# Altium footprint library myLIB.PcbLib: 150 footprints (part 1 of 10)
Each footprint in its own frame and in the unit in brackets; x right, y up, seen from the top. Pads: shape width x height; smd on the part's side, far side on the other; paste and mask are expansions set on the pad; w line width, h text height; cw(c..) or ccw(c..) is an arc to the next point about the centre after c.
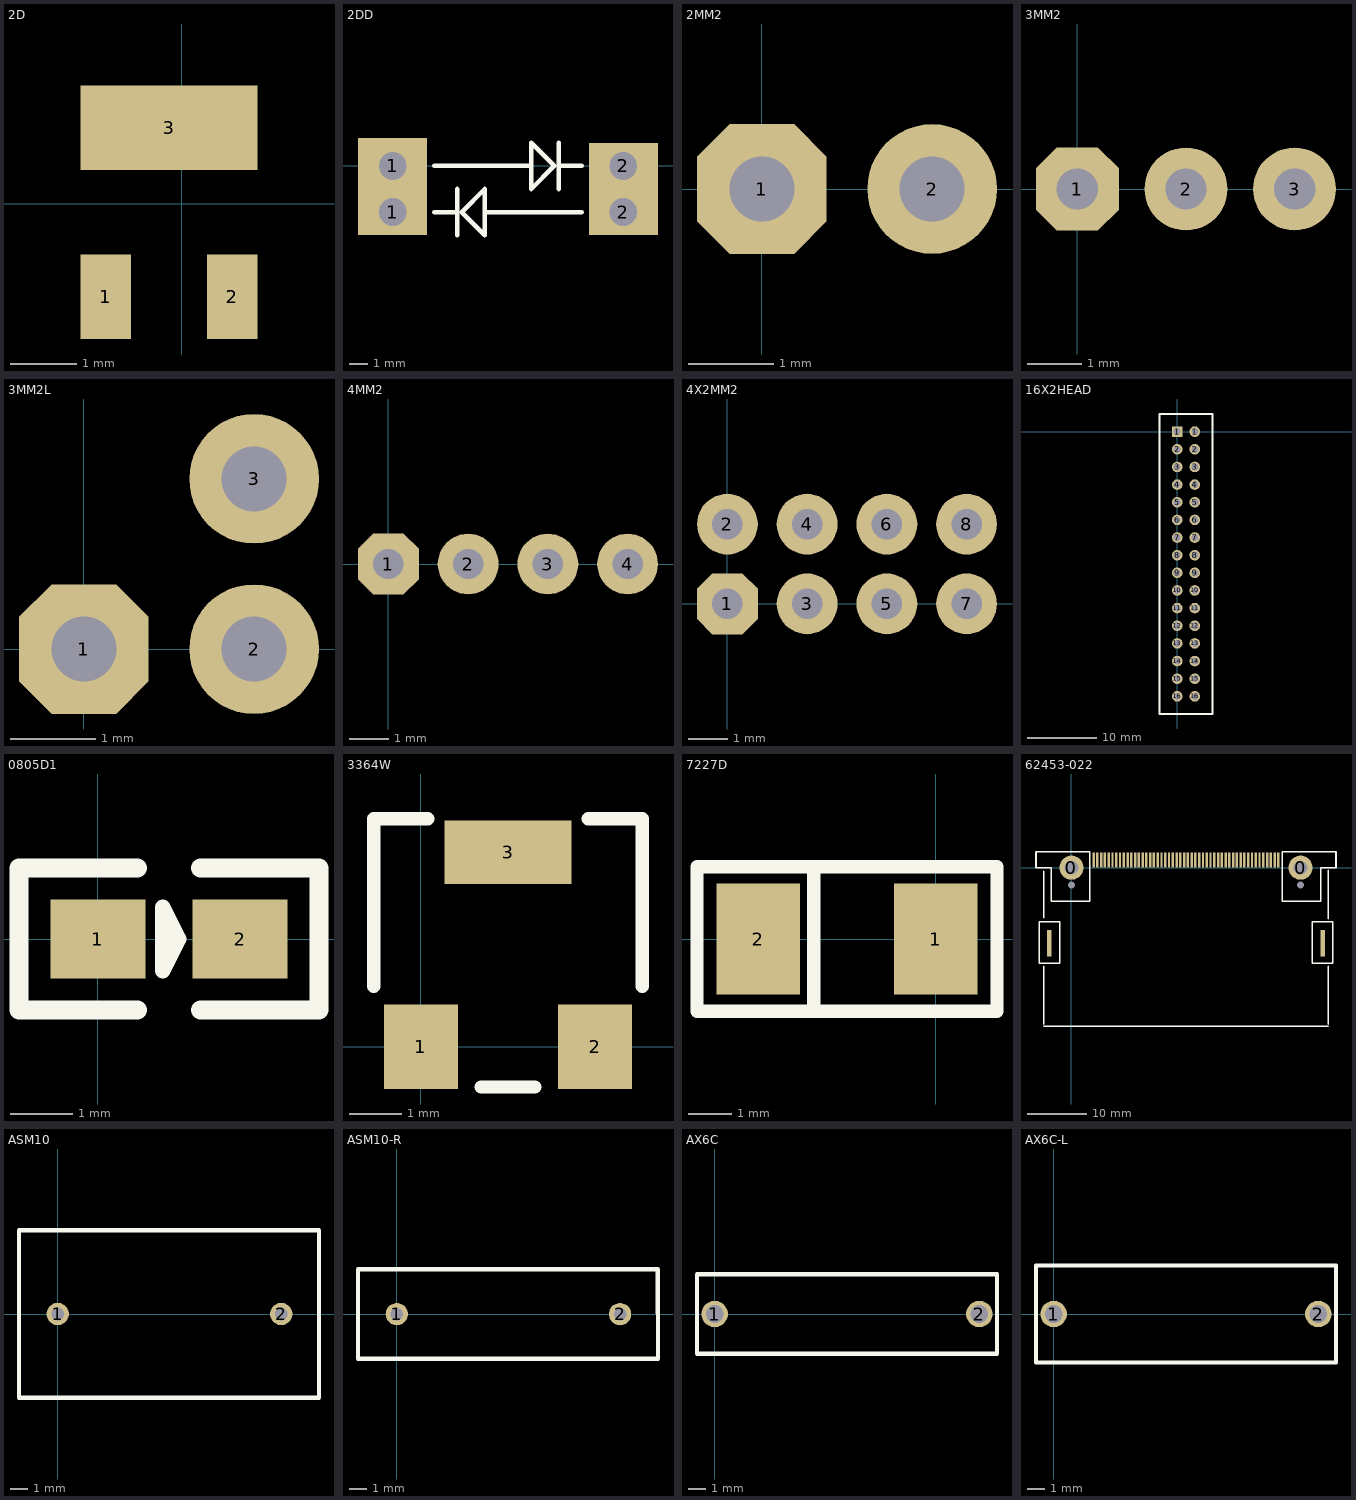
[diagram p0: the footprints below, top view; thin cyan lines are the x and y axes]

## 2D [mil]
pads (3):
  rect 30x50 smd: 1(-45,-55) 2(30,-55)
  rect 105x50 smd: 3(-7.5,45)

## 2DD [mil]
pads (4):
  rect 150x100 hole 60: 1(200,-100) 2(700,-100) 2(700,0)
  rect 150x120 hole 60: 1(200,0)
TopOverlay:
  lines w10: 290,-100 340,-100 ; 290,0 500,0 ; 340,-150 340,-50 ; 400,-100 610,-100 ; 560,-50 560,50 ; 560,0 610,0 ; 350,-100 400,-50 400,-150 350,-100 ; 500,-50 500,50 550,0 500,-50

## 2MM2 [mil]
pads (2):
  oct 60x60 hole 30: 1(0,0)
  round 60 hole 30: 2(78.74,0)

## 3MM2 [mil]
pads (3):
  oct 60x60 hole 30: 1(0,0)
  round 60 hole 30: 2(78.74,0) 3(157.48,0)

## 3MM2L [mil]
pads (3):
  oct 60x60 hole 30: 1(0,0)
  round 60 hole 30: 2(78.74,0) 3(78.74,78.74)

## 4MM2 [mil]
pads (4):
  oct 60x60 hole 30: 1(0,0)
  round 60 hole 30: 2(78.74,0) 3(157.48,0) 4(236.22,0)

## 4X2MM2 [mil]
pads (8):
  oct 60x60 hole 30: 1(0,0)
  round 60 hole 30: 2(0,78.74) 3(78.74,0) 4(78.74,78.74) 5(157.48,0) 6(157.48,78.74) 7(236.22,0) 8(236.22,78.74)

## 16X2HEAD [mil]
pads (32):
  rect 60x60 hole 40: 1(0,0)
  round 60 hole 40: 1(100,0) 2(0,-100) 2(100,-100) 3(0,-200) 3(100,-200) 4(0,-300) 4(100,-300) 5(0,-400) 5(100,-400) 6(0,-500) 6(100,-500) 7(0,-600) 7(100,-600) 8(0,-700) 8(100,-700) 9(0,-800) 9(100,-800) 10(0,-900) 10(100,-900) 11(0,-1000) 11(100,-1000) 12(0,-1100) 12(100,-1100) 13(0,-1200) 13(100,-1200) 14(0,-1300) 14(100,-1300) 15(0,-1400) 15(100,-1400) 16(0,-1500) 16(100,-1500)
TopOverlay:
  lines w10: -100,-1600 -100,100 200,100 200,-1600 -100,-1600

## 0805D1 [mil]
pads (2):
  rect 60x50 smd: 1(0,0) 2(90,0)
TopOverlay:
  lines w10: 41,-20 51,0 41,20 41,-20
  lines w12: 25,-45 -50,-45 -50,45 25,45 ; 65,-45 140,-45 140,45 65,45

## 3364W [mm]
pads (3):
  rect 1.4x1.6 smd: 1(0,0) 2(3.302,0)
  rect 2.4x1.2 smd: 3(1.651,3.683)
TopOverlay:
  lines w0.254: -0.889,1.143 -0.889,4.318 0.127,4.318 ; 1.143,-0.762 2.159,-0.762 ; 3.175,4.318 4.191,4.318 4.191,1.143

## 7227D [mil]
pads (2):
  rect 75x100 smd: 1(0,0) 2(-160,0)
TopOverlay:
  lines w12: -110,-65 -110,65 ; -215,-65 -215,65 55,65 55,-65 -215,-65

## 62453-022 [mil]
pads (56):
  rect 30x175 smd: 0(-146,-500) 0(1665,-500)
  round 0 hole 47.24: 0(0,-114.17) 0(1519,-115)
  round 160 hole 90.55: 0(0,0) 0(1519,0)
  rect 16x100 smd: 1(147,50) 2(197,50) 3(247,50) 4(297,50) 5(347,50) 6(397,50) 7(447,50) 8(497,50) 9(547,50) 10(597,50) 11(647,50) 12(697,50) 13(747,50) 14(797,50) 15(847,50) 16(897,50) 17(947,50) 18(997,50) 19(1047,50) 20(1097,50) 21(1147,50) 22(1197,50) 23(1247,50) 24(1297,50) 25(1347,50) 26(172,50) 27(222,50) 28(272,50) 29(322,50) 30(372,50) 31(422,50) 32(472,50) 33(522,50) 34(572,50) 35(622,50) 36(672,50) 37(722,50) 38(772,50) 39(822,50) 40(872,50) 41(922,50) 42(972,50) 43(1022,50) 44(1072,50) 45(1122,50) 46(1172,50) 47(1222,50) 48(1272,50) 49(1322,50) 50(1372,50)
TopOverlay:
  lines w10: -185,-1050 1704,-1050 ; -185,-1039.37 -185,-653.54 ; -185,-330.71 -185,-23.62 ; 1704,-1039.37 1704,-653.54 ; 1704,-338.58 1704,-15.75 ; -235,0 -135,0 -135,-223 122,-223 122,104 -235,104 -235,0 ; -215,-634 -215,-358 -77,-358 -77,-634 -215,-634 ; 1397,-223 1654,-223 1654,0 1754,0 1754,104 1397,104 1397,-223 ; 1596,-634 1734,-634 1734,-358 1596,-358 1596,-634

## ASM10 [mil]
pads (2):
  round 50 hole 28: 1(0,0) 2(500,0)
TopOverlay:
  lines w10: -86.5,-187.5 -86.5,187.5 0,187.5 500,187.5 584.5,187.5 584.5,-187.5 500,-187.5 0,-187.5 -86.5,-187.5

## ASM10-R [mil]
pads (2):
  round 50 hole 28: 1(0,0) 2(500,0)
TopOverlay:
  lines w10: -87,-100 -87,100 584.5,100.5 585,-100 -86.5,-100

## AX6C [mil]
pads (2):
  round 60 hole 40: 1(0,0) 2(600,0)
TopOverlay:
  lines w10: -40,-90 0,-90 600,-90 640,-90 640,90 600,90 0,90 -40,90 -40,-90

## AX6C-L [mil]
pads (2):
  round 60 hole 40: 1(0,0) 2(600,0)
TopOverlay:
  lines w10: -40,-110 -40,110 640,110 640,-110 -40,-110